# Altium footprint library PcbLib.PcbLib: 17 footprints (part 1 of 2)
Each footprint in its own frame and in the unit in brackets; x right, y up, seen from the top. Pads: shape width x height; smd on the part's side, far side on the other; paste and mask are expansions set on the pad; w line width, h text height; cw(c..) or ccw(c..) is an arc to the next point about the centre after c.
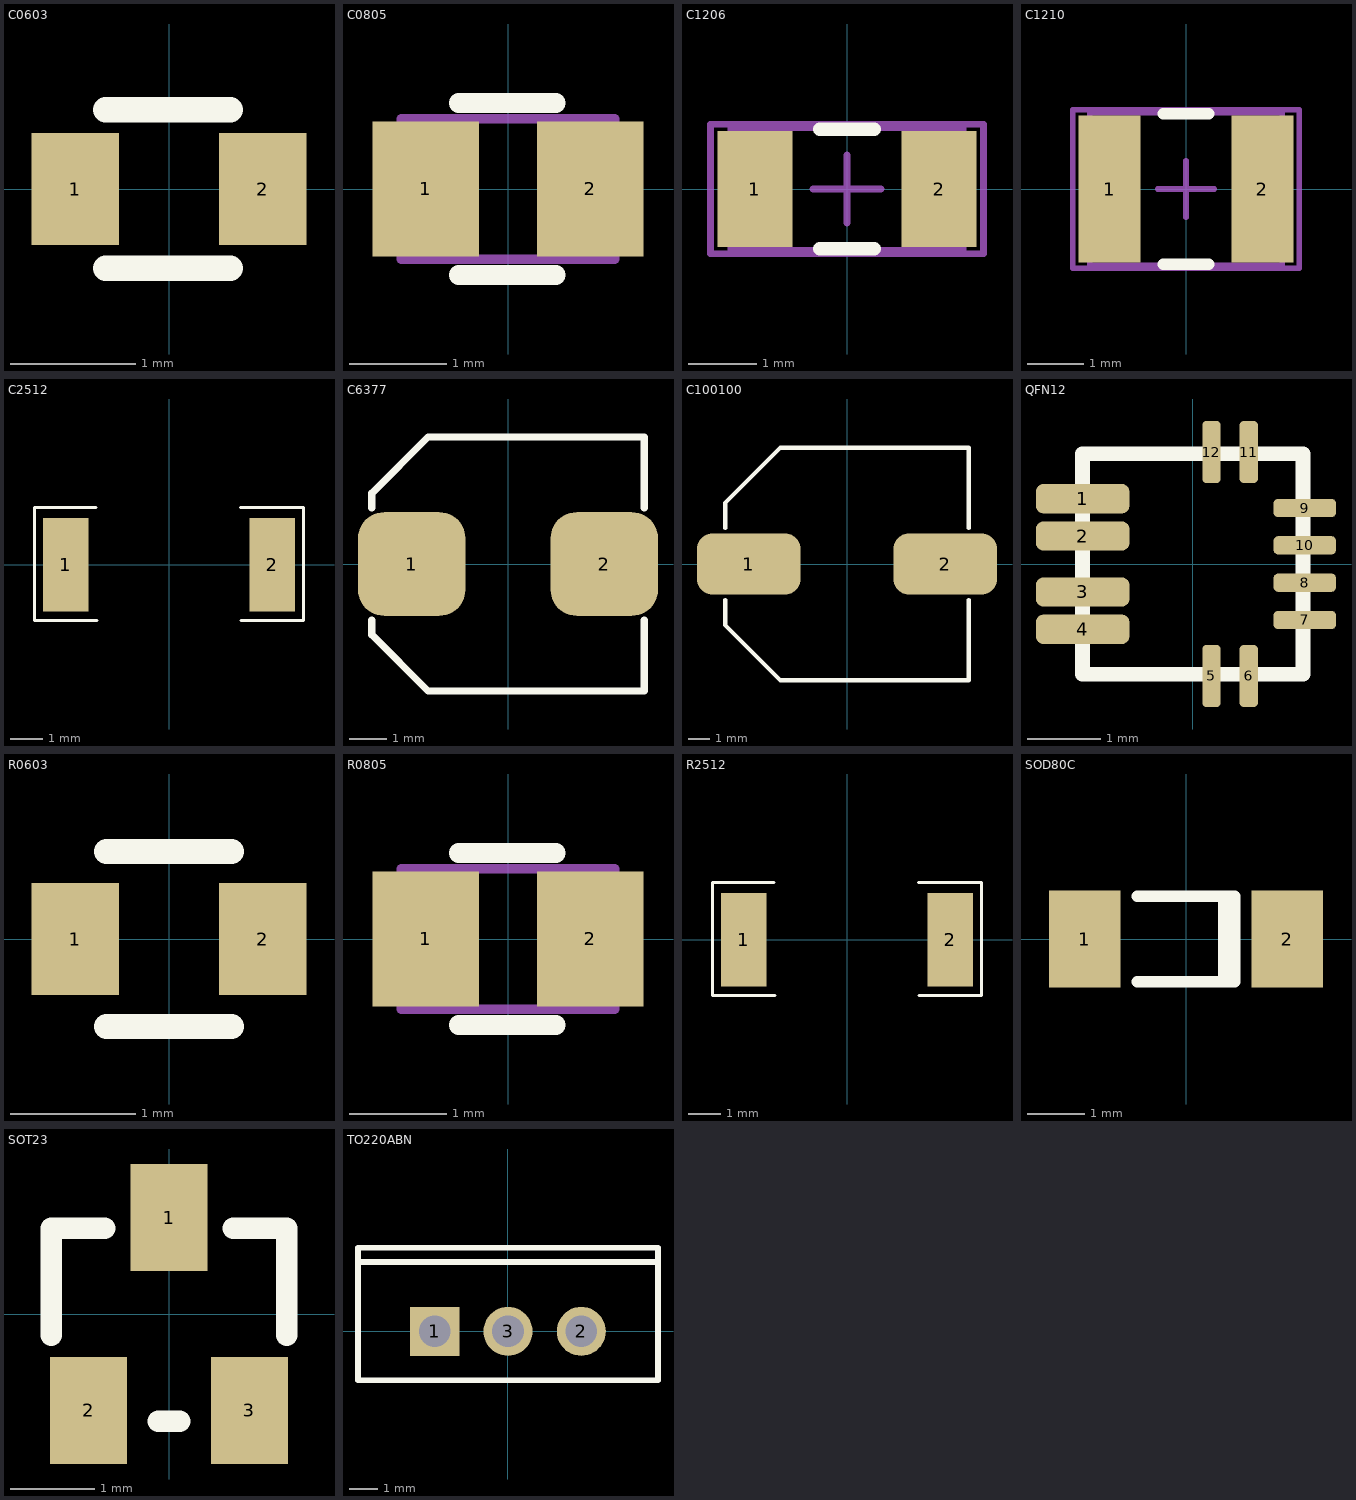
[diagram p0: the footprints below, top view; thin cyan lines are the x and y axes]

## C0603 [mm] "Chip Capacitor, Body 3.2x2.5mm, IPC High Density"
pads (2):
  rect 0.7x0.9 smd: 1(-0.75,0) 2(0.75,0)
Top Overlay:
  lines w0.203: -0.508,-0.635 0.492,-0.635 ; -0.508,0.635 0.492,0.635
3D body "User Library-0603 SMD Capacitor.STEP": height 0.3, standoff 0, extent -0.8,-0.4 0.8,0.4

## C0805 [mm] "Chip Capacitor, Body 3.2x2.5mm, IPC High Density"
height 1.4
pads (2):
  rect 1.1x1.4 smd: 1(-0.85,0) 2(0.85,0)
Top Overlay:
  lines w0.203: -0.508,-0.889 0.492,-0.889 ; -0.508,0.889 0.492,0.889
Mechanical 13:
  lines w0.1: -1.1,-0.725 1.1,-0.725 1.1,0.725 -1.1,0.725 -1.1,-0.725
3D body "SW3dPS-0805 SMD Capacitor.STEP": height 0.78, standoff 0, extent -1,-0.625 1,0.625

## C1206 [mm] "Chip Capacitor, Body 3.2x1.6mm, IPC High Density"
height 1.3
pads (2):
  rect 1.1x1.7 smd: 1(-1.35,0) 2(1.35,0)
Top Overlay:
  lines w0.2: -0.4,-0.877 0.4,-0.877 ; -0.4,0.877 0.4,0.877
Mechanical 13:
  lines w0.1: -1.7,-0.9 1.7,-0.9 1.7,0.9 -1.7,0.9 -1.7,-0.9
Mechanical 15:
  lines w0.1: -0.5,0 0.5,0 ; 0,-0.5 0,0.5 ; -2,-0.95 2,-0.95 2,0.95 -2,0.95 -2,-0.95
3D body "SW3dPS-1206 SMD Capacitor.STEP": height 1, standoff 0, extent -1.6,-0.8 1.6,0.8

## C1210 [mm] "Chip Capacitor, Body 3.2x2.5mm, IPC High Density"
height 1.3
pads (2):
  rect 1.1x2.6 smd: 1(-1.35,0) 2(1.35,0)
Top Overlay:
  lines w0.2: -0.4,-1.327 0.4,-1.327 ; -0.4,1.327 0.4,1.327
Mechanical 13:
  lines w0.1: -1.7,-1.35 -1.7,1.35 1.7,1.35 1.7,-1.35 -1.7,-1.35
Mechanical 15:
  lines w0.1: -0.5,0 0.5,0 ; 0,-0.5 0,0.5 ; -2,-1.4 -2,1.4 2,1.4 2,-1.4 -2,-1.4
3D body "SW3dPS-CAPC3225.STEP": height 2.5, standoff 0, extent -1.6,-1.25 1.6,1.25

## C2512 [mm] "Chip Capacitor, Body 3.2x2.5mm, IPC High Density"
pads (2):
  rect 1.4x2.9 smd: 1(-3.2,0) 2(3.2,0)
Top Overlay:
  lines w0.1: -2.262,1.775 -4.166,1.775 -4.166,-1.725 -2.237,-1.725 ; 2.213,1.775 4.166,1.775 4.166,-1.725 2.238,-1.725
3D body: height 0.65, standoff 0, extent -3.162,-1.375 -2.662,1.35
3D body: height 0.65, standoff 0, extent -2.662,-1.375 2.688,1.352
3D body: height 0.65, standoff 0, extent 2.688,-1.375 3.188,1.35

## C6377 [mm] "C6377"
pads (2):
  rrect50% 2.9x2.8 smd: 1(-2.6,0) 2(2.6,0)
Top Overlay:
  lines w0.2: -3.683,-1.524 -3.683,-1.905 -2.159,-3.429 3.683,-3.429 3.683,-1.524 ; -3.683,1.524 -3.683,1.905 -2.159,3.429 3.683,3.429 3.683,1.524
3D body "User Library-CC0607.STEP": height 8.11, standoff 0, extent -3.5,-3.3 3.5,3.3

## C100100 [mm] "C100100"
pads (2):
  rrect50% 4.75x2.8 smd: 1(-4.5,0) 2(4.5,0)
Top Overlay:
  lines w0.2: -5.588,-1.651 -5.588,-2.794 -3.048,-5.334 5.588,-5.334 5.588,-1.651 ; -5.588,1.651 -5.588,2.794 -3.048,5.334 5.588,5.334 5.588,1.651
3D body "User Library-CL_series_size10x10.STEP": height 10, standoff 0, extent -5.45,-5.15 5.45,5.15

## MOTOR [mm]
via 0,0 diameter 5 hole 2.5
via 0,2.435 diameter 1.5 hole 1
via 0,-2.435 diameter 1.5 hole 1

## POWER [mm] "POWER"
via 0,0 diameter 5 hole 2.5
via 0,2.435 diameter 1.5 hole 1
via 0,-2.435 diameter 1.5 hole 1

## QFN12 [mil]
pads (12):
  rrect50% 50x15.75 smd: 1(-59,35) 2(-59,15) 3(-59,-15) 4(-59,-35)
  rrect50% 9.84x33.46 smd: 5(10,-60) 6(30,-60) 11(30,60) 12(10,60)
  rrect50% 33.46x9.84 smd: 7(60,-30) 8(60,-10) 9(60,30) 10(60,10)
Top Overlay:
  lines w7.87: -59.06,-59.06 59.06,-59.06 59.06,59.06 -59.06,59.06 -59.06,-59.06

## R0603 [mm] "Chip Resistor, Body 2.0x1.3mm, IPC High Density"
pads (2):
  rect 0.7x0.9 smd: 1(-0.75,0) 2(0.75,0)
Top Overlay:
  lines w0.203: -0.5,-0.7 0.5,-0.7 ; -0.5,0.7 0.5,0.7
3D body "User Library-0603 SMD Resistor.STEP": height 0.3, standoff 0, extent -0.8,-0.4 0.8,0.4

## R0805 [mm] "Chip Resistor, Body 2.0x1.3mm, IPC High Density"
height 1.4
pads (2):
  rect 1.1x1.4 smd: 1(-0.85,0) 2(0.85,0)
Top Overlay:
  lines w0.203: -0.508,-0.889 0.492,-0.889 ; -0.508,0.889 0.492,0.889
Mechanical 13:
  lines w0.1: -1.1,-0.725 1.1,-0.725 1.1,0.725 -1.1,0.725 -1.1,-0.725
3D body "SW3dPS-0805 SMD Capacitor.STEP": height 0.78, standoff 0, extent -1,-0.625 1,0.625

## R2512 [mm] "Chip Resistor, Body 2.0x1.3mm, IPC High Density"
pads (2):
  rect 1.4x2.9 smd: 1(-3.2,0) 2(3.2,0)
Top Overlay:
  lines w0.1: -2.262,1.775 -4.166,1.775 -4.166,-1.725 -2.237,-1.725 ; 2.213,1.775 4.166,1.775 4.166,-1.725 2.238,-1.725
3D body: height 0.65, standoff 0, extent 2.688,-1.375 3.188,1.35
3D body: height 0.65, standoff 0, extent -2.662,-1.375 2.688,1.352
3D body: height 0.65, standoff 0, extent -3.162,-1.375 -2.662,1.35

## SOD80C [mm] "Metal Electrode Face (MELF) Diode; Body 3.5 x 1.6 mm (LxDia)"
height 1.6
pads (2):
  rect 1.25x1.7 smd: 1(-1.775,0) 2(1.775,0)
Top Overlay:
  lines w0.2: -0.85,-0.75 0.85,-0.75 0.85,0.75 -0.85,0.75 ; 0.66,-0.75 0.66,0.75
3D body "User Library-SOD80-3.STEP": height 1.5, standoff 0, extent -1.778,-0.75 1.822,0.75

## SOT23 [mil]
pads (3):
  rect 36x50 smd: 1(0,45) 2(-37.5,-45) 3(37.5,-45)
Top Overlay:
  lines w10: -55,-10 -55,40 -30,40 ; -5,-50 5,-50 ; 30,40 55,40 55,-10
3D body "sot23-3.STEP": height 39.37, standoff -0.79, extent -57.48,-47 57.48,50.48

## TO220ABN [mm] "TO, Thru-Hole, Vertical, Heatsink Mounted; 3 In-Line Leads; Pitch 2.54 mm; Pin sequence 1, 3, 2"
height 19.7
pads (3):
  rect 1.7x1.7 hole 1.1: 1(-2.54,0)
  round 1.7 hole 1.1: 2(2.54,0) 3(0,0)
Top Overlay:
  lines w0.2: -5.2,2.4 5.2,2.4 ; -5.2,-1.7 -5.2,2.9 5.2,2.9 5.2,-1.7 -5.2,-1.7